# Altium footprint library PCB - FET - TDSON-8-FL - BSC005N03LS5IATMA1.PcbLib: 1 footprints
Each footprint in its own frame and in the unit in brackets; x right, y up, seen from the top. Pads: shape width x height; smd on the part's side, far side on the other; paste and mask are expansions set on the pad; w line width, h text height; cw(c..) or ccw(c..) is an arc to the next point about the centre after c.
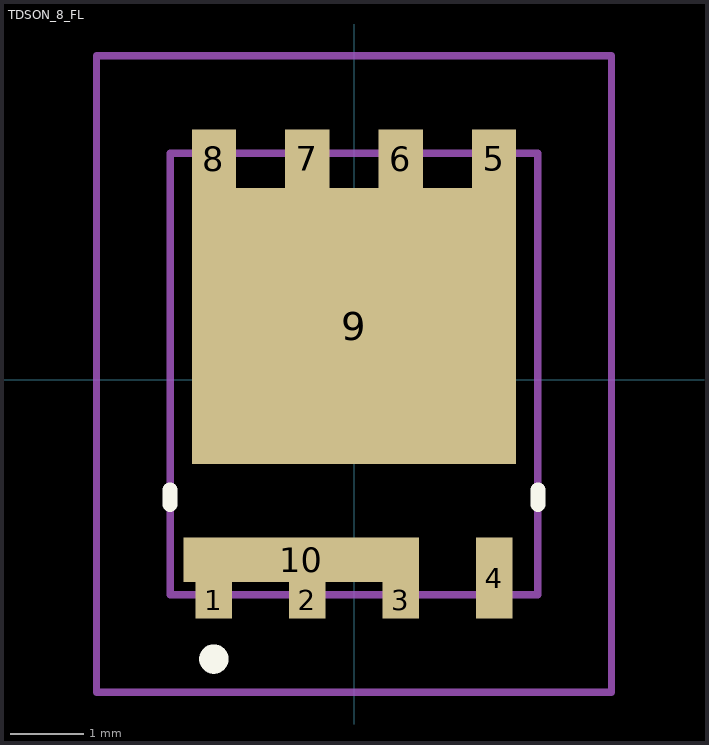
[diagram p0: the footprint, top view; thin cyan lines are the x and y axes]

## TDSON_8_FL [mm]
pads (10):
  rect 0.5x0.5 smd: 1(-1.905,-3) 2(-0.635,-3) 3(0.635,-3)
  rect 0.5x1.1 smd: 4(1.905,-2.7)
  rect 0.6x0.8 smd: 5(1.905,3) 6(0.635,3) 7(-0.635,3) 8(-1.905,3)
  rect 4.41x3.75 smd: 9(0,0.725)
  rect 3.2x0.6 smd: 10(-0.715,-2.45)
Top Overlay:
  lines w0.2: -2.5,-1.7 -2.5,-1.5 ; 2.5,-1.7 2.5,-1.5 ; -1.905,-3.9 cw(c-1.905,-3.8) -1.905,-3.7 ; -1.905,-3.9 ccw(c-1.905,-3.8) -1.905,-3.7 ; -1.905,-3.9 cw(c-1.905,-3.8) -1.905,-3.7
Mechanical 13:
  lines w0.1: -2.5,-2.925 2.5,-2.925 2.5,3.075 -2.5,3.075 -2.5,-2.925
Mechanical 15:
  lines w0.1: -3.5,-4.25 3.5,-4.25 3.5,4.4 -3.5,4.4 -3.5,-4.25
3D body "BSC005N03LS5IATMA1.stp": height 1.2, standoff 0, extent -2.5,-3.2 2.5,3.34